# Altium footprint library PcbLib1.PcbLib: 10 footprints
Each footprint in its own frame and in the unit in brackets; x right, y up, seen from the top. Pads: shape width x height; smd on the part's side, far side on the other; paste and mask are expansions set on the pad; w line width, h text height; cw(c..) or ccw(c..) is an arc to the next point about the centre after c.
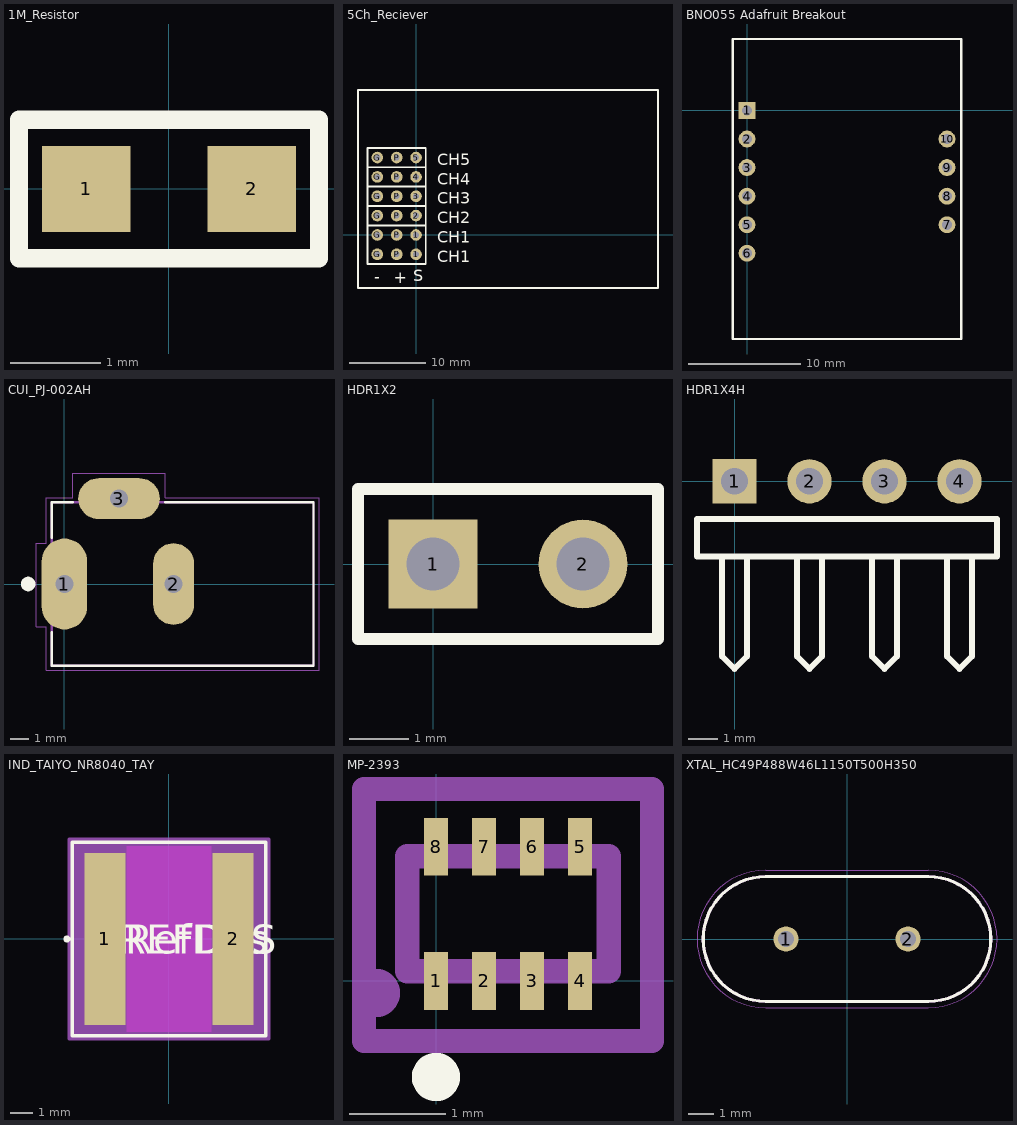
[diagram p0: the footprints below, top view; thin cyan lines are the x and y axes]

## 1M_Resistor [mm]
pads (2):
  rect 0.975x0.95 smd: 1(-0.913,0) 2(0.913,0)
Top Overlay:
  lines w0.2: -1.651,-0.762 1.651,-0.762 1.651,0.762 -1.651,0.762 -1.651,-0.762
Mechanical 1:
  text ".Designator" at -2.542,-0.216 h0.5

## 5Ch_Reciever [mil] "copied from KiCAD"
pads (18):
  round 60 hole 30: 1(0,-100) 1(0,0) 2(0,100) 3(0,200) 4(0,300) 5(0,400) G(-200,-100) G(-200,0) G(-200,100) G(-200,200) G(-200,300) G(-200,400) P(-100,-100) P(-100,0) P(-100,100) P(-100,200) P(-100,300) P(-100,400)
Top Overlay:
  lines w10: -300,-275 -300,750 1250,750 1250,-275 -298.26,-275 ; -250,50 50,50 ; -250,150 50,150 ; -250,250 50,250 ; -250,350 50,350 ; -250,-150 50,-150 50,450 -250,450 -250,-150
  text "CH1" at 110,-40 h60
  text "CH2" at 110,60 h60
  text "CH3" at 110,160 h60
  text "CH4" at 110,260 h60
  text "CH5" at 110,360 h60
  text "CH1" at 110,-140 h60
  text "+" at -115,-250 h60
  text "S" at -15,-240 h60
  text "-" at -215,-244.99 h60

## BNO055 Adafruit Breakout [mm] "Made based off KiCAD footprint used previously- 0.1\" pitch and 0.7\" between rows"
pads (10):
  rect 1.5x1.5 hole 0.9: 1(0,0)
  round 1.5 hole 0.9: 2(0,-2.54) 3(0,-5.08) 4(0,-7.62) 5(0,-10.16) 6(0,-12.7) 7(17.78,-10.16) 8(17.78,-7.62) 9(17.78,-5.08) 10(17.78,-2.54)
Top Overlay:
  lines w0.2: -1.27,-20.32 19.05,-20.32 19.05,6.35 -1.27,6.35 -1.27,-20.32

## CUI_PJ-002AH [mm]
pads (3):
  oval 2.5x5 hole 1 square: 1(0,0)
  oval 2.25x4.5 hole 1 square: 2(6,0)
  oval 4.5x2.25 hole 1 square: 3(3,4.7)
Top Overlay:
  circle w0.4: c-2,0 r0.2
  lines w0.127: -0.7,-2.65 -0.7,-4.5 13.7,-4.5 13.7,4.5 5.55,4.5 ; -0.7,2.55 -0.7,4.5 0.45,4.5
Mechanical 13:
  lines w0.127: -0.7,-4.5 13.7,-4.5 13.7,4.5 -0.7,4.5 -0.7,-4.5
Mechanical 15:
  lines w0.05: -1.55,-2.35 -1.55,2.25 -1,2.25 -1,4.75 0.45,4.75 0.45,6.1 5.55,6.1 5.55,4.75 14,4.75 14,-4.75 -1,-4.75 -1,-2.35 -1.55,-2.35
3D body "step_temp.STEP": height 4.5, standoff -10, extent -14.4,-4.5 0,4.9

## HDR1X2 [mm] "Connector; Header; 2 Position"
pads (2):
  rect 1.5x1.5 hole 0.9: 1(0,0)
  round 1.5 hole 0.9: 2(2.54,0)
Top Overlay:
  lines w0.2: -1.27,-1.27 -1.27,1.27 3.81,1.27 3.81,-1.27 -1.27,-1.27

## HDR1X4H [mm] "Connector; Header; 4 Position; Right Angle"
pads (4):
  rect 1.5x1.5 hole 0.9: 1(0,0)
  round 1.5 hole 0.9: 2(2.54,0) 3(5.08,0) 4(7.62,0)
Top Overlay:
  lines w0.2: -0.423,-2.54 -0.423,-5.927 0,-6.35 0.423,-5.927 0.423,-2.54 ; 2.117,-2.54 2.117,-5.927 2.54,-6.35 2.963,-5.927 2.963,-2.54 ; 4.657,-2.54 4.657,-5.927 5.08,-6.35 5.503,-5.927 5.503,-2.54 ; 7.197,-2.54 7.197,-5.927 7.62,-6.35 8.043,-5.927 8.043,-2.54 ; -1.27,-2.54 8.89,-2.54 8.89,-1.27 -1.27,-1.27 -1.27,-2.54

## IND_TAIYO_NR8040_TAY [mil]
pads (2):
  rect 70.5x295 smd paste+0 mask+0: 1(-110.25,0) 2(110.25,0)
Top Layer keep-out:
  region: -73,-159.5 -73,159.5 73,159.5 73,-159.5
Top Overlay:
  circle w6: c-175.5,0 r3
  lines w6: -166.5,-166.5 166.5,-166.5 166.5,166.5 -166.5,166.5 -166.5,-166.5
  text "RefDes" at -75,-25 h50
  text "REFDES" at -87.5,-25 h50
Mechanical 13:
  circle w0: c-158.5,0 r3
  lines w1: -161.5,-161.5 161.5,-161.5 161.5,161.5 -161.5,161.5 -161.5,-161.5
  text "RefDes2" at -87.5,-25 h50
Mechanical 15:
  region: -171.5,-157.5 -171.5,157.5 -171.5,171.5 171.5,171.5 171.5,157.5 171.5,-157.5 171.5,-171.5 -171.5,-171.5
  lines w6: -171.5,-171.5 -171.5,-157.5 -171.5,157.5 -171.5,171.5 171.5,171.5 171.5,157.5 171.5,-157.5 171.5,-171.5 -171.5,-171.5
3D body "IND_TAIYO_NR8040_TAY.step": height 165, standoff 0, extent -161.5,-161.61 161.5,161.61

## MP-2393 [mm] "https://www.monolithicpower.com/en/documentview/productdocument/index/version/2/document_type/Datasheet/lang/en/sku/MP2393GTL-Z/document_id/4270/"
pads (8):
  rect 0.25x0.6 smd: 1(0,0) 2(0.5,0) 3(1,0) 4(1.5,0) 5(1.5,1.4) 6(1,1.4) 7(0.5,1.4) 8(0,1.4)
Top Overlay:
  circle w0.254: c0,-1 r0.125
Top Assembly:
  circle w0.254: c-0.625,-0.125 r0.125
  lines w0.254: -0.3,0.1 1.8,0.1 1.8,1.3 -0.3,1.3 -0.3,0.1
Top Courtyard:
  lines w0.25: -0.75,2 2.25,2
  lines w0.254: -0.75,2 -0.75,-0.625 2.25,-0.625 2.25,2

## Test Point [mil] "Used same size as kicad - 3mm, 2mm hole"
via 0,0 diameter 118.11 hole 78.74

## XTAL_HC49P488W46L1150T500H350 [mm]
pads (2):
  round 1.007 hole 0.657: 1(-2.44,0) 2(2.44,0)
Top Overlay:
  lines w0.127: -5.75,0 ccw(c-3.25,0) -3.25,-2.5 3.25,-2.5 ccw(c3.25,0) 5.75,0 ccw(c3.25,0) 3.25,2.5 -3.25,2.5 ccw(c-3.25,0) -5.75,0
Mechanical 13:
  lines w0.127: -5.75,0 ccw(c-3.25,0) -3.25,-2.5 3.25,-2.5 ccw(c3.25,0) 5.75,0 ccw(c3.25,0) 3.25,2.5 -3.25,2.5 ccw(c-3.25,0) -5.75,0
Mechanical 15:
  lines w0.05: -6,0 ccw(c-3.25,0) -3.25,-2.75 3.25,-2.75 ccw(c3.25,0) 6,0 ccw(c3.25,0) 3.25,2.75 -3.25,2.75 ccw(c-3.25,0) -6,0